# EAGLE library part MINIDIN-8 (library myradio)
MINI-DIN 8 Pin Connector KMDLX-8S-BS
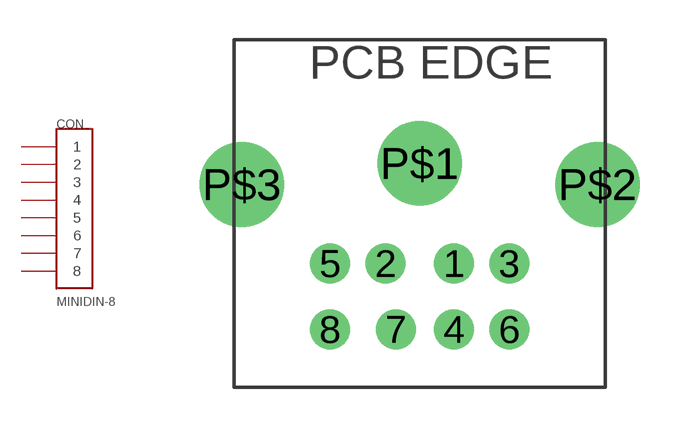
[diagram p2: symbol with the pads of MINIDIN-8; footprint MINIDIN-8]

Designator prefix CON

## MINIDIN-8  [MINIDIN-8]
1  1
2  2
3  3
4  4
5  5
6  6
7  7
8  8

## Footprint MINIDIN-8 (pad centres in mm)
drill 1 round: 1 1.3,-8.5; 2 -1.3,-8.5; 3 3.4,-8.5; 4 1.3,-11; 5 -3.4,-8.5; 6 3.4,-11; 7 -0.9,-11; 8 -3.4,-11
drill 2.2 round: P$1 0,-4.7; P$2 6.75,-5.5; P$3 -6.75,-5.5